# Altium footprint library 60W-PD.PcbLib: 70 footprints (part 1 of 5)
Each footprint in its own frame and in the unit in brackets; x right, y up, seen from the top. Pads: shape width x height; smd on the part's side, far side on the other; paste and mask are expansions set on the pad; w line width, h text height; cw(c..) or ccw(c..) is an arc to the next point about the centre after c.
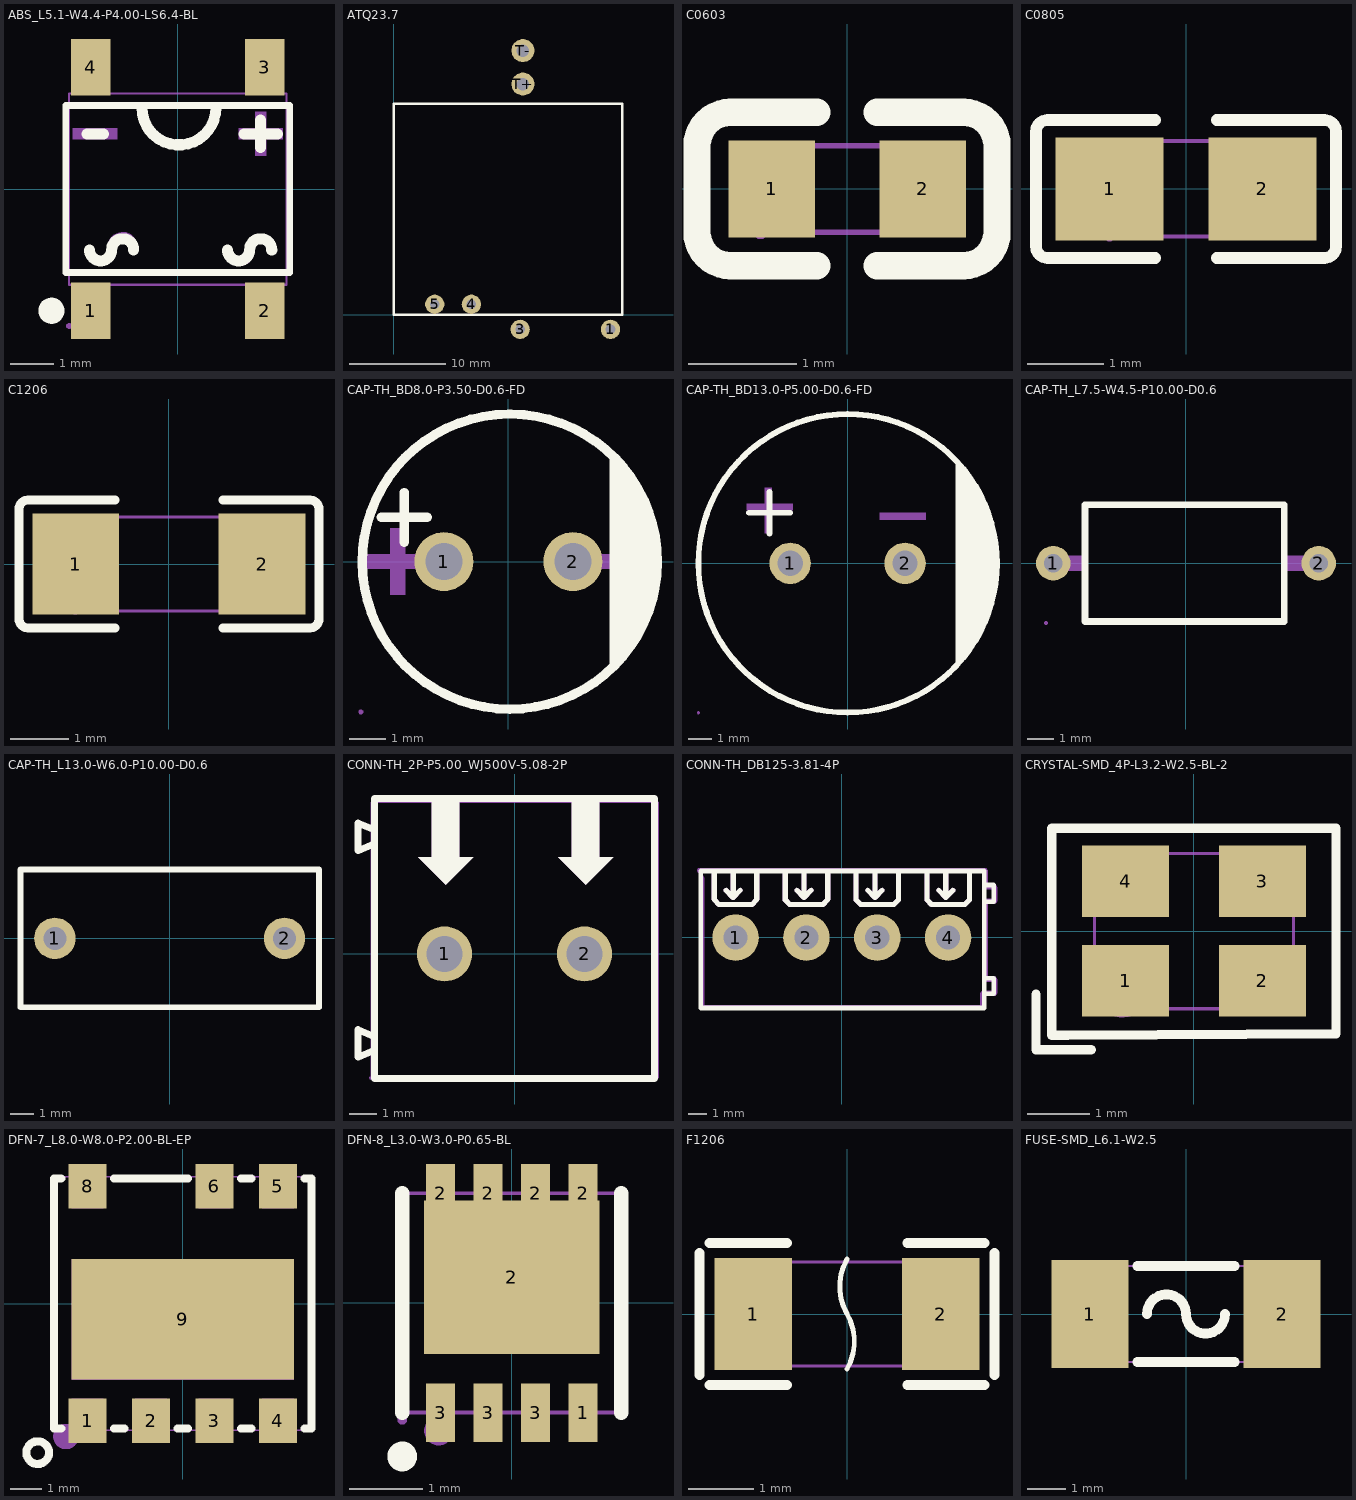
[diagram p0: the footprints below, top view; thin cyan lines are the x and y axes]

## ABS_L5.1-W4.4-P4.00-LS6.4-BL [mil]
pads (4):
  rect 35.8x51.2 smd: 1(-78.8,-110.2) 2(78.7,-110.2) 3(78.7,110.3) 4(-78.8,110.3)
Top Overlay:
  circle w11.8: c-114.5,-110.2 r5.9
  lines w6: -101.5,-75.6 101.4,-75.6 101.4,75.7 -101.5,75.7 -101.5,-75.6
  lines w10: -82.5,50 -67.5,50 ; -80,-55 ccw(c-70,-55) -60,-55 cw(c-50,-55) -40,-55 ; -32.6,73.5 ccw(c0.9,73.5) 34.4,73.5 ; 45,-55 ccw(c55,-55) 65,-55 cw(c75,-55) 85,-55 ; 60,50 90,50 ; 75,37.5 75,62.5
Mechanical 2:
  circle w11.8: c-78.8,-114.1 r5.9
  region: 49.2,-55.1 43.3,-55.1 43.3,-57.1 43.3,-59.45 45.1,-63.78 48.42,-67.1 52.75,-68.9 55.1,-68.9 57.1,-68.9 59.45,-68.9 63.78,-67.1 67.1,-63.78 68.9,-59.45 68.9,-57.1 68.9,-55.1 63,-55.1 63,-57.1 62.89,-58.25 62.01,-60.38 60.38,-62.01 58.25,-62.89 57.1,-63 55.1,-63 53.95,-62.89 51.82,-62.01 50.19,-60.38 49.31,-58.25 49.2,-57.1
  region: 63,-55.1 63,-53.1 63,-50.75 64.8,-46.42 68.12,-43.1 72.45,-41.3 74.8,-41.3 76.7,-41.3 79.05,-41.3 83.38,-43.1 86.7,-46.42 88.5,-50.75 88.5,-53.1 88.5,-55.1 82.6,-55.1 82.6,-53.1 82.49,-51.95 81.61,-49.82 79.98,-48.19 77.85,-47.31 76.7,-47.2 74.8,-47.2 73.65,-47.31 71.52,-48.19 69.89,-49.82 69.01,-51.95 68.9,-53.1 68.9,-55.1
  region: -63,-53.1 -63,-51.2 -63,-48.85 -61.2,-44.52 -57.88,-41.2 -53.55,-39.4 -51.2,-39.4 -51.2,-39.3 -49.2,-39.3 -46.85,-39.3 -42.52,-41.1 -39.2,-44.42 -37.4,-48.75 -37.4,-51.1 -37.4,-53.1 -43.3,-53.1 -43.3,-51.1 -43.41,-49.95 -44.29,-47.82 -45.92,-46.19 -48.05,-45.31 -49.2,-45.2 -51.2,-45.2 -52.35,-45.31 -54.48,-46.19 -56.11,-47.82 -56.99,-49.95 -57.1,-51.1 -57.1,-53.1
  region: -76.8,-53.1 -82.7,-53.1 -82.7,-55.1 -82.7,-57.45 -80.9,-61.78 -77.58,-65.1 -73.25,-66.9 -70.9,-66.9 -68.9,-66.9 -66.55,-66.9 -62.22,-65.1 -58.9,-61.78 -57.1,-57.45 -57.1,-55.1 -57.1,-53.1 -63,-53.1 -63,-55.1 -63.11,-56.25 -63.99,-58.38 -65.62,-60.01 -67.75,-60.89 -68.9,-61 -70.9,-61 -72.05,-60.89 -74.18,-60.01 -75.81,-58.38 -76.69,-56.25 -76.8,-55.1
  region: -90,55 -55,55 -55,45 -95,45 -95,55
  region: 70,35 70,70 80,70 80,30 70,30
  region: 60,55 95,55 95,45 55,45 55,55
Mechanical 6:
  lines w2: -98.5,-86.6 98.4,-86.6 98.4,86.6 -98.5,86.6 -98.5,-86.6
Mechanical 7:
  region: 65.9,104.8 65.9,86.3 91.5,86.3 91.5,104.8
  region: -91.6,104.8 -91.6,86.3 -66,86.3 -66,104.8
  region: 65.9,-104.7 65.9,-86.2 91.5,-86.2 91.5,-104.7
  region: -91.6,-104.7 -91.6,-86.2 -66,-86.2 -66,-104.7
Mechanical 8:
  region: -96.1,-124 -96.1,-124.99 -97.51,-126.4 -99.49,-126.4 -100.9,-124.99 -100.9,-124 -100.9,-123.01 -99.49,-121.6 -97.51,-121.6 -96.1,-123.01
Mechanical 9:
  region: 65.9,124 65.9,104.4 91.5,104.4 91.5,124
  region: -91.6,124 -91.6,104.4 -66,104.4 -66,124
  region: 65.9,-124 65.9,-104.3 91.5,-104.3 91.5,-124
  region: -91.6,-124 -91.6,-104.3 -66,-104.3 -66,-124
3D body "Unnamed-EasyEDA PCB Model~f3gh.step": height 65.32, standoff 0, extent -98.43,-115.49 98.43,105.49

## ATQ23.7 [mm]
pads (6):
  round 2 hole 1: 1(22.479,-1.5) 3(13.11,-1.5) 4(8.05,1.1) 5(4.25,1.1)
  round 2.4 hole 1.3: T+(13.4,23.952) T-(13.4,27.424)
Top Overlay:
  lines w0.254: 0,0 23.7,0 23.7,21.9 0,21.9 0,0
3D body "Unnamed-ATQ23V 5+006.step": height 16.47, standoff -4.4, extent -0.225,-0.187 23.925,21.734

## C0603 [mil]
pads (2):
  rect 31.5x35.4 smd: 1(-27.5,0) 2(27.6,0)
Top Overlay:
  lines w10: -11,-28 -42.5,-28 cw(c-42.5,-15.8) -54.7,-15.8 -54.7,15.7 cw(c-42.5,15.7) -42.5,27.9 -11,27.9 ; 11.1,-28 42.6,-28 ; 11.1,27.9 42.6,27.9 ; 42.5,-28 ccw(c42.5,-15.8) 54.7,-15.8 54.7,15.7 ccw(c42.5,15.7) 42.5,27.9
Mechanical 6:
  lines w2: -31.5,-15.8 31.5,-15.8 31.5,15.7 -31.5,15.7 -31.5,-15.8
Mechanical 8:
  region: -29.1,-15.8 -29.1,-16.79 -30.51,-18.2 -32.49,-18.2 -33.9,-16.79 -33.9,-15.8 -33.9,-14.81 -32.49,-13.4 -30.51,-13.4 -29.1,-14.81 -29.1,-15.8
Mechanical 9:
  region: 31.5,-15.8 31.5,15.7 19.7,15.7 19.7,-15.8
  region: -31.5,-15.8 -31.5,15.7 -19.7,15.7 -19.7,-15.8
3D body "Unnamed-EasyEDA PCB Model~Fg6s.step": height 31.5, standoff 0, extent -31.5,-15.8 31.5,15.7

## C0805 [mil]
pads (2):
  rect 55.5x53.1 smd paste-3937 mask+2: 1(-39.4,0) 2(39.4,0)
Top Overlay:
  lines w6: -15.8,-35.6 -71.3,-35.6 cw(c-71.3,-29.6) -77.3,-29.6 -77.3,29.5 cw(c-71.3,29.5) -71.3,35.5 -15.8,35.5 ; 15.8,-35.6 71.3,-35.6 ccw(c71.3,-29.6) 77.3,-29.6 77.3,29.5 ccw(c71.3,29.5) 71.3,35.5 15.8,35.5
Top Paste:
  region: 67.1,25.2 67.1,-25.2 65.2,-27.2 19.9,-27.2 17.9,-25.2 17.7,-9.1 35.4,-9.1 35.4,8.6 18.1,8.6 17.9,25.2 19.9,27.1 65.2,27.1
  region: -67.1,-25.2 -67.1,25.2 -65.1,27.1 -19.9,27.1 -17.9,25.2 -17.7,9 -35.4,9 -35.4,-8.7 -18.1,-8.7 -17.9,-25.2 -19.9,-27.2 -65.1,-27.2
Mechanical 6:
  lines w2: -39.4,-24.6 39.4,-24.6 39.4,24.6 -39.4,24.6 -39.4,-24.6
Mechanical 8:
  region: -37,-24.6 -37,-25.59 -38.41,-27 -40.39,-27 -41.8,-25.59 -41.8,-24.6 -41.8,-23.61 -40.39,-22.2 -38.41,-22.2 -37,-23.61 -37,-24.6
Mechanical 9:
  region: 39.4,24.6 39.4,-24.6 19.7,-24.6 19.7,24.6
  region: -39.4,-24.6 -39.4,24.6 -19.7,24.6 -19.7,-24.6
3D body "Unnamed-EasyEDA PCB Model~Td0K.step": height 51.18, standoff 0, extent -39.37,-26.58 39.37,24.6

## C1206 [mil]
pads (2):
  rect 58.5x68 smd paste-3937 mask+2: 1(-62.7,0) 2(62.7,0)
Top Overlay:
  lines w6: -36.4,-43 -94.9,-43 cw(c-94.9,-37) -100.9,-37 -100.9,37 cw(c-94.9,37) -94.9,43 -36.4,43 ; 36.5,-43 95,-43 ccw(c95,-37) 101,-37 101,37 ccw(c95,37) 95,43 36.5,43
Top Paste:
  region: 33.5,-30.1 33.5,-15.5 37.4,-11.5 49.4,-11.5 53.4,-7.6 53.4,7.6 49.4,11.6 37.4,11.6 33.5,15.5 33.5,30.1 37.4,34 88,34 92,30.1 92,-30.1 88,-34 37.4,-34
  region: -33.4,-30.1 -33.4,-15.5 -37.4,-11.5 -49.4,-11.5 -53.3,-7.6 -53.3,7.6 -49.4,11.6 -37.4,11.6 -33.4,15.5 -33.4,30.1 -37.4,34 -88,34 -91.9,30.1 -91.9,-30.1 -88,-34 -37.4,-34
Mechanical 6:
  lines w2: -63,-31.5 -63,31.5 63,31.5 63,-31.5 -63,-31.5
Mechanical 8:
  region: -60.6,-31.5 -60.6,-32.49 -62.01,-33.9 -63.99,-33.9 -65.4,-32.49 -65.4,-31.5 -65.4,-30.51 -63.99,-29.1 -62.01,-29.1 -60.6,-30.51 -60.6,-31.5
Mechanical 9:
  region: -63,-31.5 -63,31.5 -43.3,31.5 -43.3,-31.5
  region: 63,-31.5 63,31.5 43.3,31.5 43.3,-31.5
3D body "Unnamed-EasyEDA PCB Model~50c6.step": height 51.18, standoff 0, extent -62.99,-31.5 62.99,31.5

## CAP-TH_BD8.0-P3.50-D0.6-FD [mil]
pads (2):
  round 63 hole 39.4: 1(-68.9,0) 2(68.9,0)
Top Overlay:
  region: 108.25,-118.13 115.75,-110.25 128.64,-92.73 139.21,-73.71 147.29,-53.52 152.75,-32.46 155.5,-10.88 155.5,10.88 152.75,32.46 147.29,53.52 139.21,73.71 128.64,92.73 115.75,110.25 108.25,118.13 108.3,118.1
  lines w10: -135.6,47.2 -86.6,47.2 ; -111.1,20.7 -111.1,73.7 ; 0.13,157.49 ccw(c1.5,0) 2.87,157.49
Mechanical 2:
  region: 137.8,7.8 82.7,7.8 82.7,-7.9 145.7,-7.9 153.5,-7.9 153.5,7.8
  region: -98.4,7.8 -153.6,7.8 -153.6,-7.9 -90.6,-7.9 -82.7,-7.9 -82.7,7.8
  region: -126,19.6 -126,-35.5 -110.2,-35.5 -110.2,27.5 -110.2,35.4 -126,35.4
Mechanical 6:
  circle w2: c-0.1,-2.9 r157.5
  lines w2: -0.1,-160.3 0,-160.3
Mechanical 8:
  region: -155.1,-160.3 -155.1,-161.29 -156.51,-162.7 -158.49,-162.7 -159.9,-161.29 -159.9,-160.3 -159.9,-159.31 -158.49,-157.9 -156.51,-157.9 -155.1,-159.31
Mechanical 9:
  region: 80.7,0 80.7,-2.35 78.9,-6.68 75.58,-10 71.25,-11.8 66.55,-11.8 62.22,-10 58.9,-6.68 57.1,-2.35 57.1,0 57.1,2.35 58.9,6.68 62.22,10 66.55,11.8 71.25,11.8 75.58,10 78.9,6.68 80.7,2.35
  region: -57.1,0 -57.1,-2.35 -58.9,-6.68 -62.22,-10 -66.55,-11.8 -71.25,-11.8 -75.58,-10 -78.9,-6.68 -80.7,-2.35 -80.7,0 -80.7,2.35 -78.9,6.68 -75.58,10 -71.25,11.8 -66.55,11.8 -62.22,10 -58.9,6.68 -57.1,2.35
3D body "Unnamed-EasyEDA PCB Model~wqsD.step": height 315, standoff -137.79, extent -152.48,-157.87 162.48,157.48

## CAP-TH_BD13.0-P5.00-D0.6-FD [mil]
pads (2):
  round 70.9 hole 43.3: 1(-98.5,0) 2(98.4,0)
Top Overlay:
  circle w10: c-0.1,0 r255.9
  region: 185,169.3 185,-177.2 228.3,-118.1 248,-67 251.9,-19.7 248,59 224.4,126
  lines w10: -169.4,86.6 -98.5,86.6 ; -133.9,51.1 -133.9,122
Mechanical 2:
  region: 185.8,168.7 185.8,-177.7 229.1,-118.7 248.8,-67.5 252.7,-20.3 248.8,58.5 225.2,125.4
  region: -173.3,102.3 -98.5,102.3 -94.5,102.3 -94.5,98.4 -94.5,90.5 -173.3,90.5
  region: -141.8,51.1 -141.8,126 -141.8,129.9 -137.8,129.9 -130,129.9 -130,51.1
  region: 55.1,86.6 129.9,86.6 133.8,86.6 133.8,82.6 133.8,74.8 55.1,74.8
Mechanical 6:
  lines w2: -255.9,0 cw(c0,0) 255.9,0 cw(c0,0) -255.9,0
Mechanical 8:
  region: -253.5,-255.9 -253.5,-256.89 -254.91,-258.3 -256.89,-258.3 -258.3,-256.89 -258.3,-255.9 -258.3,-254.91 -256.89,-253.5 -254.91,-253.5 -253.5,-254.91
Mechanical 9:
  region: -86.7,0 -86.7,-2.35 -88.5,-6.68 -91.82,-10 -96.15,-11.8 -100.85,-11.8 -105.18,-10 -108.5,-6.68 -110.3,-2.35 -110.3,0 -110.3,2.35 -108.5,6.68 -105.18,10 -100.85,11.8 -96.15,11.8 -91.82,10 -88.5,6.68 -86.7,2.35
  region: 110.2,0 110.2,-2.35 108.4,-6.68 105.08,-10 100.75,-11.8 96.05,-11.8 91.72,-10 88.4,-6.68 86.6,-2.35 86.6,0 86.6,2.35 88.4,6.68 91.72,10 96.05,11.8 100.75,11.8 105.08,10 108.4,6.68 110.2,2.35
3D body "Unnamed-EasyEDA PCB Model~KLUs.step": height 787.8, standoff -137.79, extent -251.26,-245.64 241.25,246.08

## CAP-TH_L7.5-W4.5-P10.00-D0.6 [mil]
pads (2):
  round 51.2 hole 27.6: 1(-196.8,0) 2(196.9,0)
Top Overlay:
  lines w10: -149.6,-86.6 145.7,-86.6 145.7,86.7 -149.6,86.7 -149.6,-86.6
Mechanical 6:
  lines w2: -147.6,-88.5 -147.6,88.6 147.7,88.6 147.7,-88.5 -147.6,-88.5
Mechanical 7:
  region: -196.8,10.9 -196.8,-10.8 -145.6,-10.8 -145.6,10.9
  region: 196.9,-10.8 196.9,10.9 145.7,10.9 145.7,-10.8
Mechanical 8:
  region: -205.2,-88.5 -205.2,-89.49 -206.61,-90.9 -208.59,-90.9 -210,-89.49 -210,-88.5 -210,-87.51 -208.59,-86.1 -206.61,-86.1 -205.2,-87.51
Mechanical 9:
  region: -186,0 -186,-2.15 -187.64,-6.12 -190.68,-9.16 -194.65,-10.8 -198.95,-10.8 -202.92,-9.16 -205.96,-6.12 -207.6,-2.15 -207.6,0 -207.6,2.15 -205.96,6.12 -202.92,9.16 -198.95,10.8 -194.65,10.8 -190.68,9.16 -187.64,6.12 -186,2.15
  region: 207.7,0 207.7,-2.15 206.06,-6.12 203.02,-9.16 199.05,-10.8 194.75,-10.8 190.78,-9.16 187.74,-6.12 186.1,-2.15 186.1,0 186.1,2.15 187.74,6.12 190.78,9.16 194.75,10.8 199.05,10.8 203.02,9.16 206.06,6.12 207.7,2.15
3D body "Unnamed-EasyEDA PCB Model~ZAv7.step": height 387.04, standoff -137.79, extent -215.87,-88.58 215.87,88.58

## CAP-TH_L13.0-W6.0-P10.00-D0.6 [mil]
pads (2):
  round 70.9 hole 39.4: 1(-196.9,0) 2(196.8,0)
Top Overlay:
  lines w10: -255.9,-118.1 -255.9,118.1 255.9,118.1 255.9,-118.1 -255.9,-118.1
Mechanical 6:
  lines w2: -255.9,-118.1 255.9,-118.1 255.9,118.1 -255.9,118.1 -255.9,-118.1
Mechanical 8:
  region: -253.5,-118.1 -253.5,-119.09 -254.91,-120.5 -256.89,-120.5 -258.3,-119.09 -258.3,-118.1 -258.3,-117.11 -256.89,-115.7 -254.91,-115.7 -253.5,-117.11
Mechanical 9:
  region: -185.1,0 -185.1,-2.35 -186.9,-6.68 -190.22,-10 -194.55,-11.8 -199.25,-11.8 -203.58,-10 -206.9,-6.68 -208.7,-2.35 -208.7,0 -208.7,2.35 -206.9,6.68 -203.58,10 -199.25,11.8 -194.55,11.8 -190.22,10 -186.9,6.68 -185.1,2.35
  region: 208.6,0 208.6,-2.35 206.8,-6.68 203.48,-10 199.15,-11.8 194.45,-11.8 190.12,-10 186.8,-6.68 185,-2.35 185,0 185,2.35 186.8,6.68 190.12,10 194.45,11.8 199.15,11.8 203.48,10 206.8,6.68 208.6,2.35
3D body "Unnamed-EasyEDA PCB Model~xT39.step": height 472.44, standoff -137.79, extent -250.91,-118.11 260.91,118.15

## CONN-TH_2P-P5.00_WJ500V-5.08-2P [mil]
pads (2):
  round 78.7 hole 51.2: 1(-100,0) 2(100,0)
Top Overlay:
  region: 81.9,216.6 121.3,216.6 121.3,137.8 141,137.8 101.6,98.5 62.2,137.8 81.9,137.8
  region: -118.1,216.6 -78.7,216.6 -78.7,137.8 -59,137.8 -98.4,98.5 -137.8,137.8 -118.1,137.8
  lines w10: -200,-177.9 -200,222.1 ; -200,-137.8 -223.6,-147.6 -223.6,-108.2 -200,-118.1 ; -200,157.5 -223.6,147.7 -223.6,187 -200,177.2 ; -198.9,-178 200,-178 200,222 -198.9,222
Mechanical 2:
  region: -118.1,216.6 -78.7,216.6 -78.7,137.8 -59,137.8 -98.4,98.5 -137.8,137.8 -118.1,137.8
  region: 81.9,216.6 121.3,216.6 121.3,137.8 141,137.8 101.6,98.5 62.2,137.8 81.9,137.8
Mechanical 6:
  lines w2: -205,-177.1 -205,216.6 205,216.6 205,-177.1 -205,-177.1
Mechanical 8:
  region: -202.6,-177.1 -203,-178.4 -204,-179.3 -205.3,-179.5 -206.5,-178.9 -207.2,-177.8 -207.2,-176.5 -206.5,-175.4 -205.3,-174.8 -204,-175 -203,-175.9
Mechanical 9:
  region: -78.3,0 -78.7,-4.1 -79.9,-8 -81.8,-11.7 -84.3,-14.9 -87.4,-17.6 -91,-19.7 -94.9,-21 -98.9,-21.6 -103.1,-21.4 -107.1,-20.4 -110.8,-18.7 -114.2,-16.3 -117,-13.4 -119.2,-9.9 -120.8,-6.1 -121.5,-2 -121.5,2.1 -120.8,6.1 -119.2,10 -117,13.4 -114.2,16.4 -110.8,18.8 -107.1,20.5 -103.1,21.5 -98.9,21.7 -94.9,21.1 -91,19.7 -87.4,17.7 -84.3,15 -81.8,11.7 -79.9,8.1 -78.7,4.1
  region: 121.7,0 121.3,-4.1 120.1,-8 118.2,-11.7 115.7,-14.9 112.6,-17.6 109,-19.7 105.1,-21 101.1,-21.6 96.9,-21.4 92.9,-20.4 89.2,-18.7 85.8,-16.3 83,-13.4 80.8,-9.9 79.2,-6.1 78.5,-2 78.5,2.1 79.2,6.1 80.8,10 83,13.4 85.8,16.4 89.2,18.8 92.9,20.5 96.9,21.5 101.1,21.7 105.1,21.1 109,19.7 112.6,17.7 115.7,15 118.2,11.7 120.1,8.1 121.3,4.1

## CONN-TH_DB125-3.81-4P [mil]
pads (4):
  round 98.4 hole 51.2: 1(-225,-0.1) 2(-75,-0.1) 3(75,-0.1) 4(225,-0.1)
Top Overlay:
  drawing of 22 lines, arcs and shapes, not listed
Mechanical 2:
  drawing of 13 lines, arcs and shapes, not listed
Mechanical 6:
  lines w2: -298.4,-149.1 -298.4,142.2 301.5,142.2 301.5,-149.1 -298.4,-149.1
Mechanical 8:
  region: -296.1,-149.1 -296.5,-150.4 -297.5,-151.3 -298.8,-151.4 -300,-150.9 -300.7,-149.8 -300.7,-148.4 -300,-147.3 -298.8,-146.8 -297.5,-147 -296.5,-147.8
Mechanical 9:
  region: 57.3,11.8 92.7,11.8 92.7,-11.9 57.3,-11.9
  region: -92.7,11.8 -57.3,11.8 -57.3,-11.9 -92.7,-11.9
  region: -242.7,11.8 -207.3,11.8 -207.3,-11.9 -242.7,-11.9
  region: 207.3,11.8 242.7,11.8 242.7,-11.9 207.3,-11.9

## CRYSTAL-SMD_4P-L3.2-W2.5-BL-2 [mil]
pads (4):
  rect 55.1x45.3 smd: 1(-43.3,-31.5) 2(43.3,-31.5) 3(43.3,31.5) 4(-43.3,31.5)
Top Overlay:
  lines w6: -100,-40 -100,-70 -100,-75 -65,-75 ; -90,-66.1 -90,65 90,65 90,0 90,-65 -79.9,-66.1 -90,-66.1
Mechanical 2:
  lines w19.7: -54.8,-36.3 -54.8,-33.7 -54,-31.1 -52.6,-28.8 -50.7,-27 -48.3,-25.7 -45.7,-25.2 -43,-25.4 -40.5,-26.3 -38.3,-27.8 -36.6,-29.9 -35.5,-32.3 -35.2,-35 -35.5,-37.7 -36.6,-40.1 -38.3,-42.2 -40.5,-43.7 -43,-44.6 -45.7,-44.8 -48.3,-44.3 -50.7,-43 -52.6,-41.2 -54,-38.9 -54.8,-36.3
Mechanical 6:
  lines w2: -63,-49.2 63,-49.2 63,49.2 -63,49.2 -63,-49.2
Mechanical 8:
  region: -60.6,-49.2 -61,-50.5 -62,-51.4 -63.3,-51.5 -64.5,-51 -65.3,-49.9 -65.3,-48.5 -64.5,-47.4 -63.3,-46.9 -62,-47.1 -61,-47.9
Mechanical 9:
  region: 19.7,-13.8 59.1,-13.8 59.1,-45.3 19.7,-45.3
  region: -59.1,-13.8 -19.7,-13.8 -19.7,-45.3 -59.1,-45.3
  region: -59.1,45.3 -19.7,45.3 -19.7,13.8 -59.1,13.8
  region: 19.7,45.3 59.1,45.3 59.1,13.8 19.7,13.8

## DFN-7_L8.0-W8.0-P2.00-BL-EP [mil]
pads (8):
  rect 47.2x55.1 smd paste+0 mask+2: 1(-118.1,-145.6) 2(-39.3,-145.6) 3(39.4,-145.6) 4(118.2,-145.6) 5(118.2,145.7) 6(39.4,145.7) 8(-118.1,145.7)
  rect 275.6x149.6 smd paste+0 mask+2: 9(0,-19.7)
Top Overlay:
  circle w10: c-180,-185 r14.1
  lines w10: -150.8,-155 -160,-155 -160,155 -150.8,155 ; -85.3,-155 -72.1,-155 ; -85.3,155 -72.1,155 -6.6,155 6.7,155 ; -6.6,-155 6.7,-155 ; 72.1,-155 85.4,-155 ; 72.1,155 85.4,155 ; 150.9,-155 160,-155 160,155 155,155 150.9,155
Mechanical 2:
  circle w15.7: c-145,-165 r7.9
Mechanical 6:
  lines w2: -157.4,-157.4 -157.4,157.5 157.5,157.5 157.5,-157.4 -157.4,-157.4
Mechanical 8:
  region: -155,-157.4 -155,-158.39 -156.41,-159.8 -158.39,-159.8 -159.8,-158.39 -159.8,-157.4 -159.8,-156.41 -158.39,-155 -156.41,-155 -155,-156.41
Mechanical 9:
  region: -137.8,157.5 -98.4,157.5 -98.4,118.1 -137.8,118.1
  region: 19.7,157.5 59.1,157.5 59.1,118.1 19.7,118.1
  region: 98.5,157.5 137.8,157.5 137.8,118.1 98.5,118.1
  region: 98.5,-118.1 137.8,-118.1 137.8,-157.4 98.5,-157.4
  region: 19.7,-118.1 59.1,-118.1 59.1,-157.4 19.7,-157.4
  region: -59,-118.1 -19.6,-118.1 -19.6,-157.4 -59,-157.4
  region: -137.8,-118.1 -98.4,-118.1 -98.4,-157.4 -137.8,-157.4
  region: -137.8,55.2 137.8,55.2 137.8,-94.4 -137.8,-94.4
3D body "Unnamed-EasyEDA PCB Model~F7PC.step": height 49.21, standoff 0, extent -154.53,-159.06 154.53,159.06

## DFN-8_L3.0-W3.0-P0.65-BL [mil]
pads (9):
  rect 15.7x31.5 smd paste-3937 mask+2: 1(38.4,-59.1) 2(-38.4,59.1) 2(-12.8,59.1) 2(12.8,59.1) 2(38.4,59.1) 3(-38.4,-59.1) 3(-12.8,-59.1) 3(12.8,-59.1)
  rect 94.5x82.7 smd paste-3937 mask+2: 2(0,13.8)
Top Overlay:
  circle w7.9: c-59.1,-82.7 r4.1
  lines w7.9: -59.1,-59.1 -59.1,59.1 ; 59,-59.1 59,59.1
Top Paste:
  region: 47.2,-27.6 -47.3,-27.6 -47.3,55.1 -46.3,55.1 -46.3,74.8 -30.5,74.8 -30.5,55.1 -20.7,55.1 -20.7,74.8 -5,74.8 -5,55.1 4.9,55.1 4.9,74.8 20.6,74.8 20.6,55.1 30.5,55.1 30.5,74.8 46.2,74.8 46.2,55.1 47.2,55.1
  region: 46.2,-74.8 30.5,-74.8 30.5,-43.3 46.2,-43.3
  region: 20.7,-74.8 4.9,-74.8 4.9,-43.3 20.7,-43.3
  region: -4.9,-74.8 -20.7,-74.8 -20.7,-43.3 -4.9,-43.3
  region: -30.5,-74.8 -46.3,-74.8 -46.3,-43.3 -30.5,-43.3
Mechanical 2:
  circle w7.9: c-39.4,-68.9 r3.9
Mechanical 6:
  lines w2: -59.1,-59.1 59,-59.1 59,59.1 -59.1,59.1 -59.1,-59.1
Mechanical 8:
  region: -56.7,-63 -56.7,-63.99 -58.11,-65.4 -60.09,-65.4 -61.5,-63.99 -61.5,-63 -61.5,-62.01 -60.09,-60.6 -58.11,-60.6 -56.7,-62.01
Mechanical 9:
  region: -32.5,47.2 -44.3,47.2 -44.3,63 -32.5,63
  region: -6.9,47.2 -18.7,47.2 -18.7,63 -6.9,63
  region: 18.7,47.2 6.9,47.2 6.9,63 18.7,63
  region: -32.5,-63 -44.3,-63 -44.3,-47.2 -32.5,-47.2
  region: -6.9,-63 -18.7,-63 -18.7,-47.2 -6.9,-47.2
  region: 18.7,-63 6.9,-63 6.9,-47.2 18.7,-47.2
  region: -46.3,53.2 46.2,53.2 46.2,-25.6 -46.3,-25.6
  region: 44.3,-63 32.5,-63 32.5,-47.2 44.3,-47.2
  region: 44.3,47.2 32.5,47.2 32.5,63 44.3,63
3D body "Unnamed-EasyEDA PCB Model~5011.step": height 28.35, standoff 0, extent -59.1,-59.45 59.01,59.45

## F1206 [mil]
pads (2):
  rect 46.9x68 smd: 1(-56.9,0) 2(56.9,0)
Top Overlay:
  lines w3: 0,-33.2 2.2,-28.8 3.6,-24 4.4,-19.1 4.4,-14.1 3.6,-9.2 2.2,-4.5 0,0 -2.1,4.5 -3.6,9.2 -4.3,14.2 -4.3,19.1 -3.6,24.1 -2.1,28.8 0,33.3
  lines w6: -89.3,-37 -89.3,37 ; -83.3,-43 -36.4,-43 ; -83.3,43 -36.4,43 ; 36.5,-43 83.3,-43 ; 36.5,43 83.3,43 ; 89.3,-37 89.3,37
Mechanical 6:
  lines w2: -63,-31.5 -63,31.5 63,31.5 63,-31.5 -63,-31.5
Mechanical 8:
  region: -60.6,-31.5 -61,-32.8 -62,-33.6 -63.3,-33.8 -64.5,-33.3 -65.2,-32.1 -65.2,-30.8 -64.5,-29.7 -63.3,-29.1 -62,-29.3 -61,-30.2
Mechanical 9:
  region: 43.3,-31.5 63,-31.5 63,31.5 43.3,31.5
  region: -63,-31.5 -43.3,-31.5 -43.3,31.5 -63,31.5

## FUSE-SMD_L6.1-W2.5 [mil]
pads (2):
  rect 78.7x110.2 smd: 1(-98.4,0) 2(98.4,0)
Top Overlay:
  lines w10: -50,-49.2 49.9,-49.2 ; -50,49.2 49.9,49.2 ; -40,0 cw(c-20,0) 0,0 ccw(c20,0) 40,0
Mechanical 6:
  lines w2: -120.1,-49.2 120.1,-49.2 120.1,49.2 -120.1,49.2 -120.1,-49.2
Mechanical 8:
  region: -117.8,49.5 -117.8,48.51 -119.21,47.1 -121.19,47.1 -122.6,48.51 -122.6,49.5 -122.6,50.49 -121.19,51.9 -119.21,51.9 -117.8,50.49
Mechanical 9:
  region: 65,49.2 120.1,49.2 120.1,-49.2 65,-49.2
  region: -120.1,49.2 -65,49.2 -65,-49.2 -120.1,-49.2
3D body "Unnamed-EasyEDA PCB Model~Tokc.step": height 102.36, standoff 0, extent -120.13,-53.16 120.03,49.2